# EAGLE library part TRANS_ER29 (library 3do)
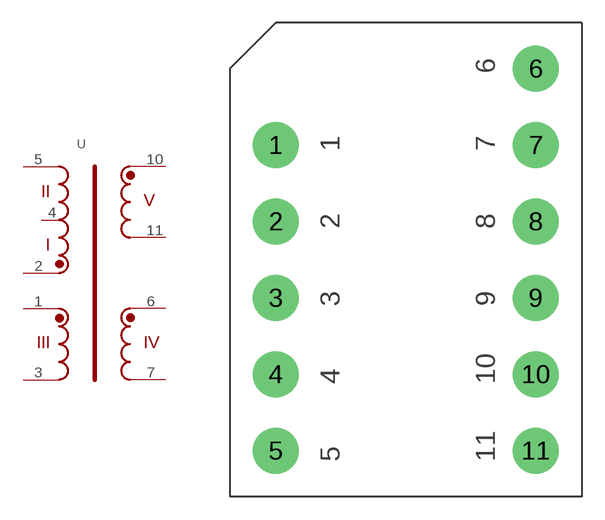
[diagram p0: symbol with the pads of ER29; footprint ER29]

Designator prefix -

## TRANS_ER29  [ER29]
1  OP1
2  IN2
3  OP2
4  INC
5  IN1
6  O2.1
7  O2.2
10  9V1
11  9V2

## Footprint ER29 (pad centres in mm)
drill 1 pad 3: 1 -8,8; 2 -8,3; 3 -8,-2; 4 -8,-7; 5 -8,-12; 6 9,13; 7 9,8; 8 9,3; 9 9,-2; 10 9,-7; 11 9,-12